# Altium schematic symbol library LCD3310.SchLib: 1 symbol
Pins are listed as number, name and electrical type; pins without a type are passive.

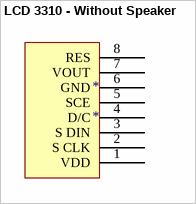
[diagram p0: symbol LCD 3310 - Without Speaker]

## LCD 3310 - Without Speaker
designator *
footprint LCD 3310 - Without Speaker
pins: 1 VDD (power), 2 S CLK, 3 S DIN, 4 D/C, 5 SCE, 6 GND, 7 VOUT, 8 RES